# Altium schematic symbol library Schematic Title Blocks.SchLib: 18 symbols
Pins are listed as number, name and electrical type; pins without a type are passive.

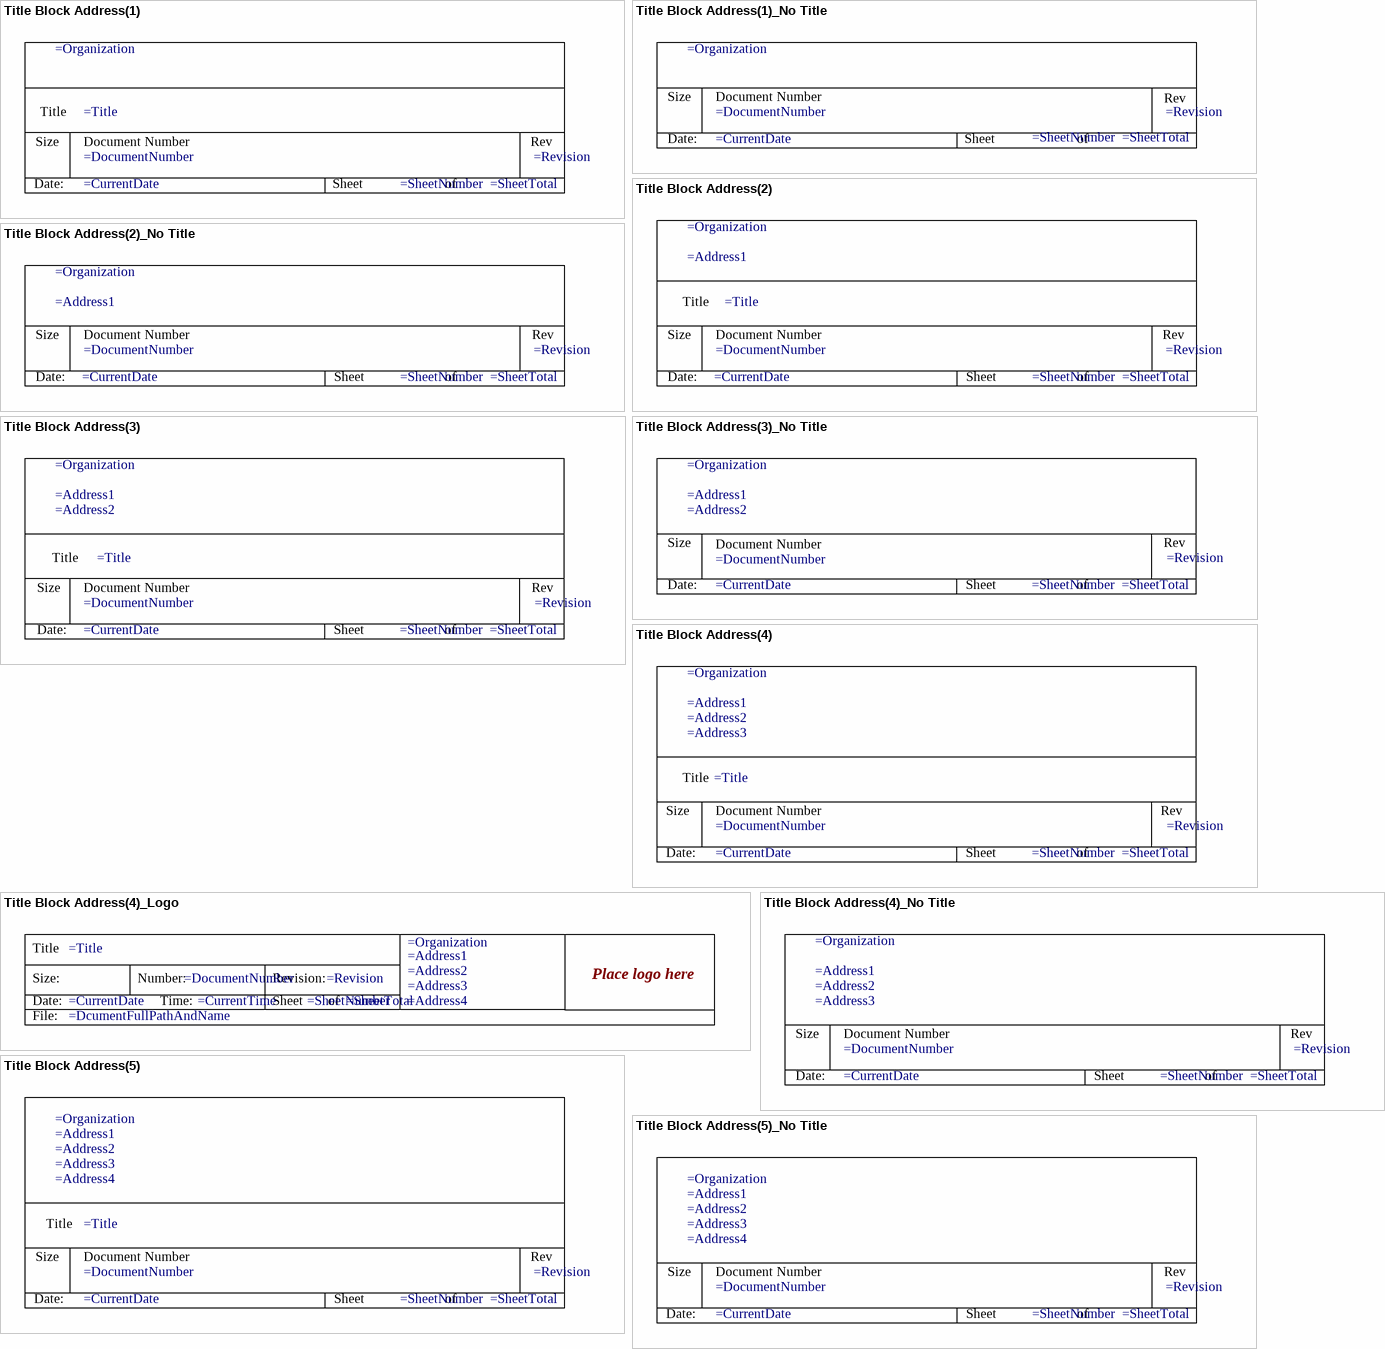
[diagram p0: symbols Title Block Address(1) to Title Block Address(5)_No Title]

## Title Block Address(1)
designator ?  (graphical)
Revision Number: =Revision; Organization Name: =Organization; Sheet Number: =SheetNumber; Total Sheets: =SheetTotal; Date: =CurrentDate; Document Number: =DocumentNumber; Sheet Title: =Title
text: Title; Size; Document Number; Rev; Date:; Sheet; of

## Title Block Address(1)_No Title
designator ?  (graphical)
Total Sheets: =SheetTotal; Sheet Number: =SheetNumber; Organization Name: =Organization; Revision Number: =Revision; Date: =CurrentDate; Document Number: =DocumentNumber
text: Size; Document Number; Rev; Date:; Sheet; of

## Title Block Address(2)
designator ?  (graphical)
Total Sheets: =SheetTotal; Sheet Number: =SheetNumber; Organization Address 1: =Address1; Organization Name: =Organization; Revision Number: =Revision; Date: =CurrentDate; Document Number: =DocumentNumber; Sheet Title: =Title
text: Title; Size; Document Number; Rev; Date:; Sheet; of

## Title Block Address(2)_No Title
designator ?  (graphical)
Total Sheets: =SheetTotal; Sheet Number: =SheetNumber; Organization Address 1: =Address1; Organization Name: =Organization; Revision Number: =Revision; Date: =CurrentDate; Document Number: =DocumentNumber
text: Size; Document Number; Rev; Date:; Sheet; of

## Title Block Address(3)
designator ?  (graphical)
Revision Number: =Revision; Organization Name: =Organization; Organization Address 1: =Address1; Organization Address 2: =Address2; Sheet Number: =SheetNumber; Total Sheets: =SheetTotal; Date: =CurrentDate; Document Number: =DocumentNumber; Sheet Title: =Title
text: Title; Size; Document Number; Rev; Date:; Sheet; of

## Title Block Address(3)_No Title
designator ?  (graphical)
Revision Number: =Revision; Organization Name: =Organization; Organization Address 1: =Address1; Organization Address 2: =Address2; Sheet Number: =SheetNumber; Total Sheets: =SheetTotal; Date: =CurrentDate; Document Number: =DocumentNumber
text: Size; Rev; Document Number; Date:; Sheet; of

## Title Block Address(4)
designator ?  (graphical)
Total Sheets: =SheetTotal; Sheet Number: =SheetNumber; Organization Address 3: =Address3; Organization Address 2: =Address2; Organization Address 1: =Address1; Organization Name: =Organization; Revision Number: =Revision; Date: =CurrentDate; Document Number: =DocumentNumber; Sheet Title: =Title
text: Title; Size; Document Number; Rev; Date:; Sheet; of

## Title Block Address(4)_Logo
designator ?  (graphical)
Sheet Title: =Title; Document Number: =DocumentNumber; Organization Name: =Organization; Revision Number: =Revision; Organization Address 1: =Address1; Organization Address 2: =Address2; Organization Address 3: =Address3; Organization Address 4: =Address4; Date: =CurrentDate; Time: =CurrentTime; Document Path and Name: =DcumentFullPathAndName; Total Sheets: =SheetTotal; Sheet Number: =SheetNumber
text: Title; Size:; Number:; Revision:; Place logo here; Date:; Time:; Sheet; of; File:

## Title Block Address(4)_No Title
designator ?  (graphical)
Total Sheets: =SheetTotal; Sheet Number: =SheetNumber; Organization Address 3: =Address3; Organization Address 2: =Address2; Organization Address 1: =Address1; Organization Name: =Organization; Revision Number: =Revision; Date: =CurrentDate; Document Number: =DocumentNumber
text: Size; Document Number; Rev; Date:; Sheet; of

## Title Block Address(5)
designator ?  (graphical)
Revision Number: =Revision; Organization Name: =Organization; Organization Address 1: =Address1; Organization Address 2: =Address2; Organization Address 3: =Address3; Organization Address 4: =Address4; Sheet Number: =SheetNumber; Total Sheets: =SheetTotal; Date: =CurrentDate; Document Number: =DocumentNumber; Sheet Title: =Title
text: Title; Size; Document Number; Rev; Date:; Sheet; of

## Title Block Address(5)_No Title
designator ?  (graphical)
Revision Number: =Revision; Organization Name: =Organization; Organization Address 1: =Address1; Organization Address 2: =Address2; Organization Address 3: =Address3; Organization Address 4: =Address4; Sheet Number: =SheetNumber; Total Sheets: =SheetTotal; Date: =CurrentDate; Document Number: =DocumentNumber
text: Size; Document Number; Rev; Date:; Sheet; of

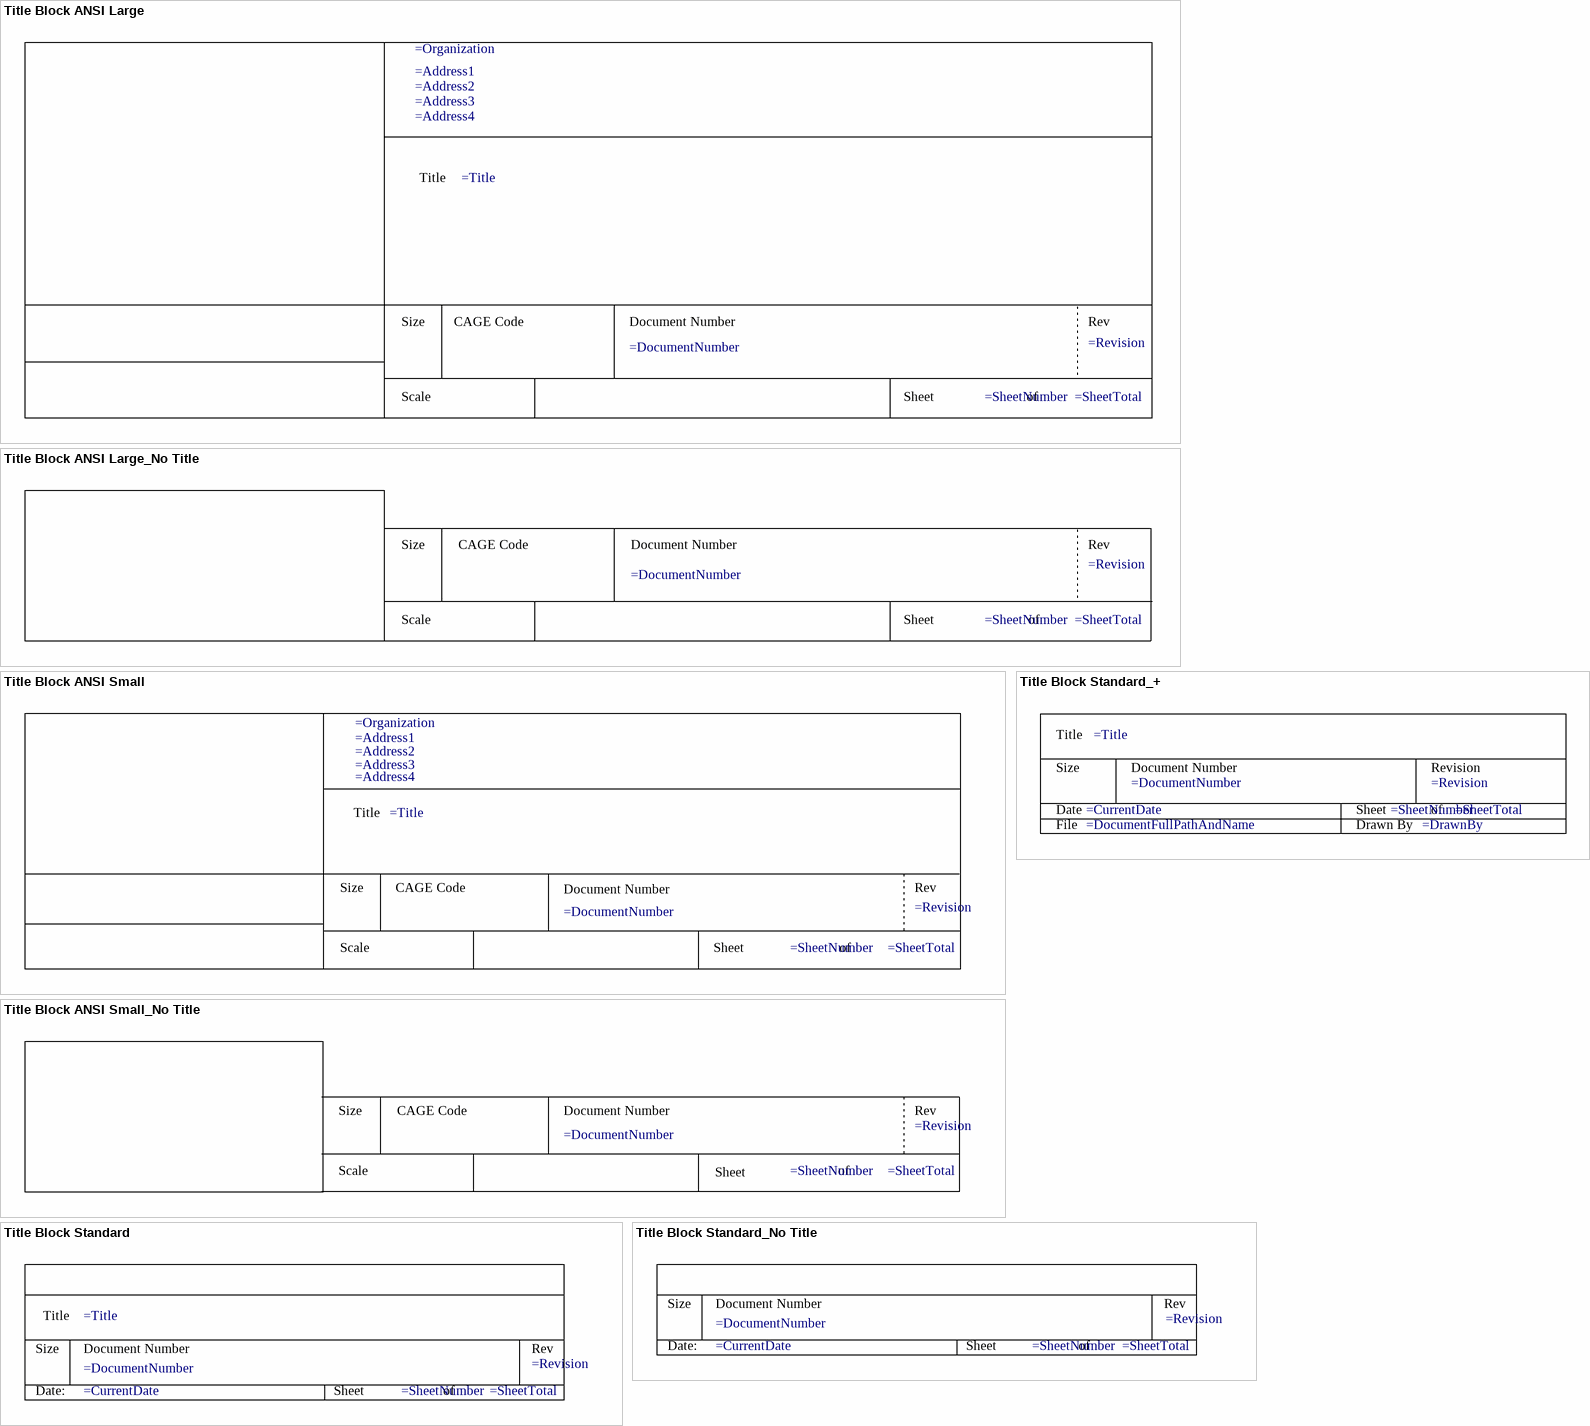
[diagram p1: symbols Title Block ANSI Large to Title Block Standard_No Title]

## Title Block ANSI Large
designator ?  (graphical)
Revision Number: =Revision; Organization Address 3: =Address3; Organization Address 2: =Address2; Organization Address 1: =Address1; Total Sheets: =SheetTotal; Sheet Number: =SheetNumber; Organization Name: =Organization; Organization Address 4: =Address4; Document Number: =DocumentNumber; Sheet Title: =Title
text: Title; Size; CAGE Code; Document Number; Rev; Scale; Sheet; of

## Title Block ANSI Large_No Title
designator ?  (graphical)
Total Sheets: =SheetTotal; Sheet Number: =SheetNumber; Revision Number: =Revision; Document Number: =DocumentNumber
text: Size; CAGE Code; Document Number; Rev; Scale; Sheet; of

## Title Block ANSI Small
designator ?  (graphical)
Organization Address 4: =Address4; Revision Number: =Revision; Organization Name: =Organization; Sheet Number: =SheetNumber; Total Sheets: =SheetTotal; Organization Address 1: =Address1; Organization Address 2: =Address2; Organization Address 3: =Address3; Sheet Title: =Title; Document Number: =DocumentNumber
text: Title; Size; CAGE Code; Rev; Document Number; Scale; Sheet; of

## Title Block ANSI Small_No Title
designator ?  (graphical)
Total Sheets: =SheetTotal; Sheet Number: =SheetNumber; Revision Number: =Revision; Document Number: =DocumentNumber
text: Size; CAGE Code; Document Number; Rev; Scale; of; Sheet

## Title Block Standard
designator ?  (graphical)
Revision Number: =Revision; Sheet Number: =SheetNumber; Total Sheets: =SheetTotal; Date: =CurrentDate; Sheet Title: =Title; Document Number: =DocumentNumber
text: Title; Size; Document Number; Rev; Date:; Sheet; of

## Title Block Standard_+
designator ?  (graphical)
Drawn By: =DrawnBy; Sheet Title: =Title; Document Number: =DocumentNumber; Revision Number: =Revision; Date: =CurrentDate; Total Sheets: =SheetTotal; Sheet Number: =SheetNumber; Document Path and Name: =DocumentFullPathAndName
text: Title; Size; Document Number; Revision; Date; Sheet; of; File; Drawn By

## Title Block Standard_No Title
designator ?  (graphical)
Total Sheets: =SheetTotal; Sheet Number: =SheetNumber; Revision Number: =Revision; Date: =CurrentDate; Document Number: =DocumentNumber
text: Size; Document Number; Rev; Date:; Sheet; of